# EAGLE library part TPS62237DRYT (library TPS62237DRYT)
Texas Instruments, TPS62237DRYT Step-Down Switching Regulator 500mA, 6-Pin SON Source: Datasheet <http://www.ti.com/lit/gpn/tps62230>
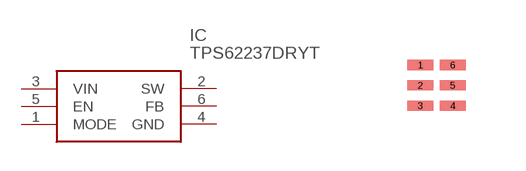
[diagram p0: symbol with the pads of SON50P100X145X60-6N; footprint SON50P100X145X60-6N]

Designator prefix IC

## TPS62237DRYT (ARROW_PART_NUMBER: TPS62237DRYT; ARROW_PRICE/STOCK: https://www.arrow.com/en/products/tps62237dryt/texas-instruments; DESCRIPTION: Texas Instruments, TPS62237DRYT Step-Down Switching Regulator 500mA, 6-Pin SON; HEIGHT: mm; MANUFACTURER_NAME: Texas Instruments; MANUFACTURER_PART_NUMBER: TPS62237DRYT; RS_PART_NUMBER: 8256977P; RS_PRICE/STOCK: http://uk.rs-online.com/web/p/products/8256977P)  [SON50P100X145X60-6N]
1  MODE
2  SW
3  VIN
4  GND
5  EN
6  FB

## Footprint SON50P100X145X60-6N (pad centres in mm)
SON50P100X145X60-6N
smd 0.66 x 0.254: 1 -0.406,0.508; 2 -0.406,0; 3 -0.406,-0.508; 4 0.406,-0.508; 5 0.406,0; 6 0.406,0.508